# EAGLE library part BTS7200-4EPA (library mosfet-infineon)
BTS7200-4EPA SOP65P600X115-15N-V Quad Channel Smart High-Side Power Switch
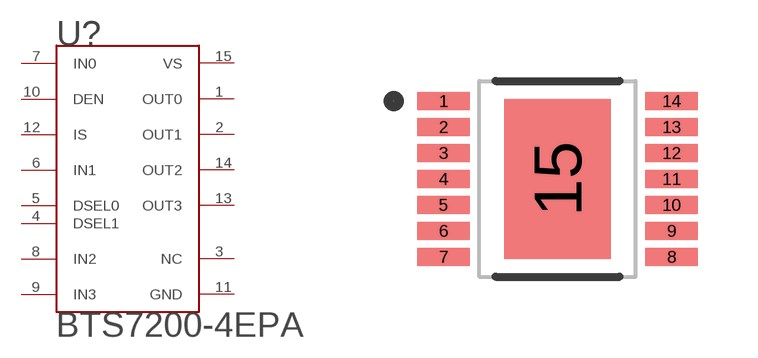
[diagram p85: symbol with the pads of SOP65P600X115-15N-V; footprint SOP65P600X115-15N-V]

Designator prefix U?

## BTS7200-4EPA  [SOP65P600X115-15N-V]
1  OUT0  out
2  OUT1  out
3  NC  pas
4  DSEL1  in
5  DSEL0  in
6  IN1  in
7  IN0  in
8  IN2  in
9  IN3  in
10  DEN  in
11  GND  pwr
12  IS  out
13  OUT3  out
14  OUT2  out
15  VS  pwr

## Footprint SOP65P600X115-15N-V (pad centres in mm)
Original name SOP65P600X115-15N-V Max Component Height - 1.15mm
smd 1.31 x 0.45: 1 -2.85,1.95; 2 -2.85,1.3; 3 -2.85,0.65; 4 -2.85,0; 5 -2.85,-0.65; 6 -2.85,-1.3; 7 -2.85,-1.95; 8 2.85,-1.95; 9 2.85,-1.3; 10 2.85,-0.65; 11 2.85,0; 12 2.85,0.65; 13 2.85,1.3; 14 2.85,1.95
smd 2.65 x 4: 15 0,0